# Altium footprint library test_points.PcbLib: 33 footprints (part 1 of 3)
Each footprint in its own frame and in the unit in brackets; x right, y up, seen from the top. Pads: shape width x height; smd on the part's side, far side on the other; paste and mask are expansions set on the pad; w line width, h text height; cw(c..) or ccw(c..) is an arc to the next point about the centre after c.
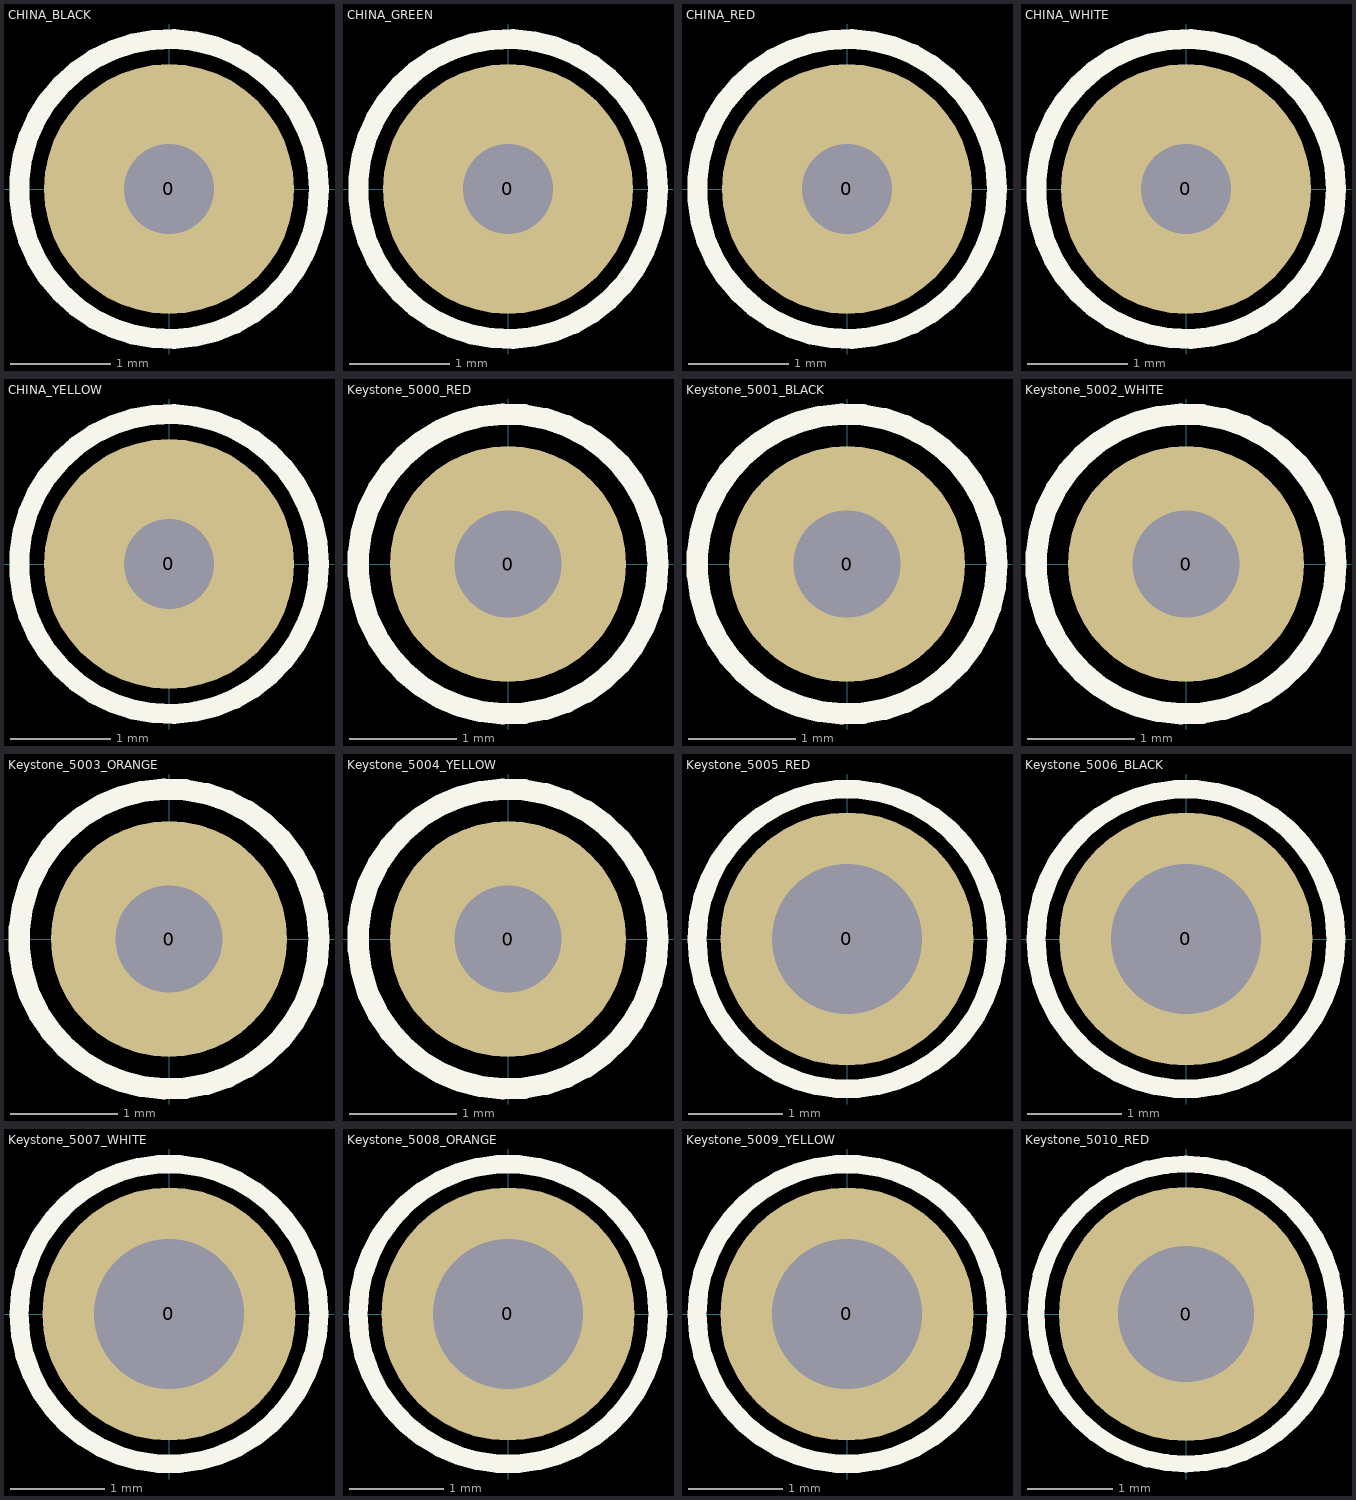
[diagram p0: the footprints below, top view; thin cyan lines are the x and y axes]

## CHINA_BLACK [mm]
pads (1):
  round 2.5 hole 0.9: 0(0,0)
Top Overlay:
  circle w0.2: c0,0 r1.5
3D body "User Library-Test Point Keystone - 5001 BLACK.STEP": height 4.57, standoff -3.05, extent -1.27,-1.27 1.27,1.27

## CHINA_GREEN [mm]
pads (1):
  round 2.5 hole 0.9: 0(0,0)
Top Overlay:
  circle w0.2: c0,0 r1.5
3D body "User Library-Test Point Keystone - 5003 ORANGE.STEP": height 4.57, standoff -3.05, extent -1.27,-1.27 1.27,1.27

## CHINA_RED [mm]
pads (1):
  round 2.5 hole 0.9: 0(0,0)
Top Overlay:
  circle w0.2: c0,0 r1.5
3D body "User Library-Test Point Keystone - 5000 RED.STEP": height 4.57, standoff -3.05, extent -1.27,-1.27 1.27,1.27

## CHINA_WHITE [mm]
pads (1):
  round 2.5 hole 0.9: 0(0,0)
Top Overlay:
  circle w0.2: c0,0 r1.5
3D body "User Library-Test Point Keystone - 5002 WHITE.STEP": height 4.57, standoff -3.05, extent -1.27,-1.27 1.27,1.27

## CHINA_YELLOW [mm]
pads (1):
  round 2.5 hole 0.9: 0(0,0)
Top Overlay:
  circle w0.2: c0,0 r1.5
3D body "User Library-Test Point Keystone - 5004 YELLOW.STEP": height 4.57, standoff -3.05, extent -1.27,-1.27 1.27,1.27

## Keystone_5000_RED [mm] "Red Keystone Electronics 5000 Test Point"
pads (1):
  round 2.2 hole 1: 0(0,0)
Top Overlay:
  circle w0.2: c0,0 r1.397
3D body "User Library-Test Point Keystone - 5000 RED.STEP": height 4.57, standoff -3.05, extent -1.27,-1.27 1.27,1.27

## Keystone_5001_BLACK [mm] "Black Keystone Electronics 5001 Test Point"
pads (1):
  round 2.2 hole 1: 0(0,0)
Top Overlay:
  circle w0.2: c0,0 r1.397
3D body "User Library-Test Point Keystone - 5001 BLACK.STEP": height 4.57, standoff -3.05, extent -1.27,-1.27 1.27,1.27

## Keystone_5002_WHITE [mm] "White Keystone Electronics 5002 Test Point"
pads (1):
  round 2.2 hole 1: 0(0,0)
Top Overlay:
  circle w0.2: c0,0 r1.397
3D body "User Library-Test Point Keystone - 5002 WHITE.STEP": height 4.57, standoff -3.05, extent -1.27,-1.27 1.27,1.27

## Keystone_5003_ORANGE [mm] "Orange Keystone Electronics 5003 Test Point"
pads (1):
  round 2.2 hole 1: 0(0,0)
Top Overlay:
  circle w0.2: c0,0 r1.397
3D body "User Library-Test Point Keystone - 5003 ORANGE.STEP": height 4.57, standoff -3.05, extent -1.27,-1.27 1.27,1.27

## Keystone_5004_YELLOW [mm] "Yellow Keystone Electronics 5004 Test Point"
pads (1):
  round 2.2 hole 1: 0(0,0)
Top Overlay:
  circle w0.2: c0,0 r1.397
3D body "User Library-Test Point Keystone - 5004 YELLOW.STEP": height 4.57, standoff -3.05, extent -1.27,-1.27 1.27,1.27

## Keystone_5005_RED [mm] "Yellow Keystone Electronics 5005 Test Point"
pads (1):
  round 2.7 hole 1.6: 0(0,0)
Top Overlay:
  circle w0.2: c0,0 r1.6
3D body "keystone-PN5005.STEP": height 5.49, standoff -3.42, extent -1.588,-1.592 1.587,1.583

## Keystone_5006_BLACK [mm] "Yellow Keystone Electronics 5006 Test Point"
pads (1):
  round 2.7 hole 1.6: 0(0,0)
Top Overlay:
  circle w0.2: c0,0 r1.6
3D body "keystone-PN5006.STEP": height 5.49, standoff -3.42, extent -1.588,-1.651 1.587,1.524

## Keystone_5007_WHITE [mm] "Yellow Keystone Electronics 5007 Test Point"
pads (1):
  round 2.7 hole 1.6: 0(0,0)
Top Overlay:
  circle w0.2: c0,0 r1.6
3D body "keystone-PN5007.STEP": height 5.49, standoff -3.42, extent -1.588,-1.592 1.587,1.583

## Keystone_5008_ORANGE [mm] "Yellow Keystone Electronics 5008 Test Point"
pads (1):
  round 2.7 hole 1.6: 0(0,0)
Top Overlay:
  circle w0.2: c0,0 r1.6
3D body "keystone-PN5008.STEP": height 5.49, standoff -3.42, extent -1.588,-1.587 1.587,1.588

## Keystone_5009_YELLOW [mm] "Yellow Keystone Electronics 5009 Test Point"
pads (1):
  round 2.7 hole 1.6: 0(0,0)
Top Overlay:
  circle w0.2: c0,0 r1.6
3D body "keystone-PN5009.STEP": height 5.49, standoff -3.42, extent -1.588,-1.587 1.587,1.588

## Keystone_5010_RED [mm] "Red Keystone Electronics 5010 Test Point"
pads (1):
  round 3 hole 1.6: 0(0,0)
Top Overlay:
  circle w0.2: c0,0 r1.769
3D body "User Library-TEST POINT RED Keystone 5010.step": height 8.13, standoff -3.1, extent -1.588,-1.587 1.587,1.588